# Altium integrated library TI_Logic_Little_Logic.IntLib: 1164 symbols (part 3 of 35)
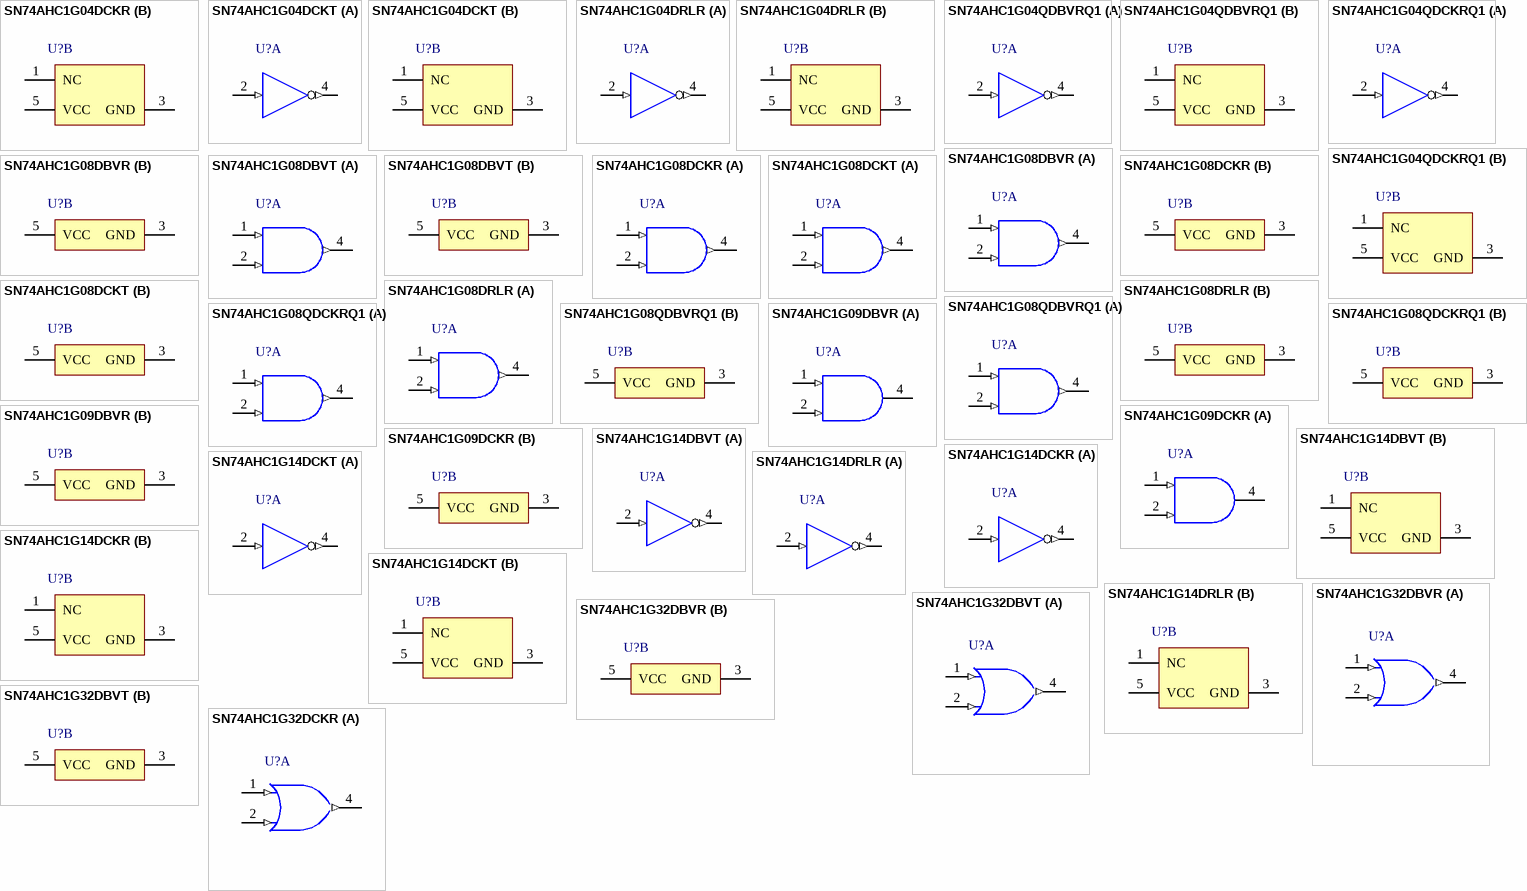
[diagram p62: symbols SN74AHC1G04DCKR to SN74AHC1G32DCKR]

## SN74AHC1G04QDCKRQ1
designator U?
Automotive Catalog Single Inverter Gate, DCK0005A, LARGE T&R; Generic Part Number: SN74AHC1G04-Q1; Manufacturer: Texas Instruments; PartNumber: SN74AHC1G04QDCKRQ1; VCC(Min)(V): 2; VCC(Max)(V): 5.5; Output Type: CMOS; ICC @ Nom Voltage(Max)(mA): 0.01; Bits(#): 1; F @ Nom Voltage(Max)(Mhz): 75; Technology Family: AHC; Voltage(Nom)(V): 3.3,5; Schmitt Trigger: No; Output Drive (IOL/IOH)(Max)(mA): 50/-50; tpd @ Nom Voltage(Max)(ns): 10.6,7.5; Logic: Inverting; Sub-Family: Inverting Buffer/Driver; DatasheetVersion: SCLS540A; PackageReference: DCK0005A; Supplier 1: Mouser; Supplier Part Number 1: 595-SN74AHC1G04QDCQ1; Supplier 2: Digi-Key; Supplier Part Number 2: 296-17248-2-ND; Supplier 3: Digi-Key; Supplier Part Number 3: 296-17248-1-ND; Supplier 4: Digi-Key; Supplier Part Number 4: 296-17248-6-ND; Input Type: CMOS; Operating Temperature Range(C): -40 to 125; Rating: Automotive; 3-State Output: No; ComponentLink1Description: Manufacturer URL; ComponentLink1URL: http://www.ti.com/; ComponentLink2Description: Datasheet; ComponentLink2URL: http://www.ti.com/lit/ds/symlink/sn74ahc1g04-q1.pdf
footprint DCK0005A_N (SOT23, 5-Leads, Body 2.15x1.4mm, Pitch 0.65mm, IPC Medium Density)
footprint DCK0005A_M (SOT23, 5-Leads, Body 2.15x1.4mm, Pitch 0.65mm, IPC Low Density)
footprint DCK0005A_L (SOT23, 5-Leads, Body 2.15x1.4mm, Pitch 0.65mm, IPC High Density)
part A pins: 2 A (in) "Input A", 4 Y (out) "Output Y"
part B pins: 1 NC "Ground", 3 GND (power) "Ground Pin", 5 VCC (power) "Power Pin"

## SN74AHC1G08DBVR
designator U?
Single 2-Input Positive-AND Gate, DBV0005A, LARGE T&R; Generic Part Number: SN74AHC1G08; Manufacturer: Texas Instruments; PartNumber: SN74AHC1G08DBVR; VCC(Min)(V): 2; VCC(Max)(V): 5.5; Output Type: CMOS; ICC @ Nom Voltage(Max)(mA): 0.01; Bits(#): 1; F @ Nom Voltage(Max)(Mhz): 75; Rating: Catalog; Technology Family: AHC; Voltage(Nom)(V): 3.3,5; Schmitt Trigger: No; Output Drive (IOL/IOH)(Max)(mA): 50/-50; tpd @ Nom Voltage(Max)(ns): 12.3,7.9; Logic: True; Gate Type: AND; DatasheetVersion: SCLS314N; PackageReference: DBV0005A; Supplier 1: Mouser; Supplier Part Number 1: 595-SN74AHC1G08DBVR; Supplier 2: Digi-Key; Supplier Part Number 2: 296-1091-2-ND; Supplier 3: Digi-Key; Supplier Part Number 3: 296-1091-1-ND; Supplier 4: Digi-Key; Supplier Part Number 4: 296-1091-6-ND; Input Type: CMOS; Operating Temperature Range(C): -55 to 125; Sub-Family: AND Gate; 3-State Output: No; ComponentLink1Description: Manufacturer URL; ComponentLink1URL: http://www.ti.com/; ComponentLink2Description: Datasheet; ComponentLink2URL: http://www.ti.com/lit/ds/symlink/sn74ahc1g08.pdf
footprint DBV0005A_N (SOT23, 5-Leads, Body 3.05x1.75mm, Pitch 0.95mm, IPC Medium Density)
footprint DBV0005A_M (SOT23, 5-Leads, Body 3.05x1.75mm, Pitch 0.95mm, IPC Low Density)
footprint DBV0005A_L (SOT23, 5-Leads, Body 3.05x1.75mm, Pitch 0.95mm, IPC High Density)
part A pins: 1 A (in) "Input A", 2 B (in) "Input B", 4 Y (out) "Output Y"
part B pins: 3 GND (power) "Ground Pin", 5 VCC (power) "Power Pin"

## SN74AHC1G08DBVT
designator U?
Single 2-Input Positive-AND Gate, DBV0005A, SMALL T&R; Generic Part Number: SN74AHC1G08; Manufacturer: Texas Instruments; PartNumber: SN74AHC1G08DBVT; VCC(Min)(V): 2; VCC(Max)(V): 5.5; Output Type: CMOS; ICC @ Nom Voltage(Max)(mA): 0.01; Bits(#): 1; F @ Nom Voltage(Max)(Mhz): 75; Rating: Catalog; Technology Family: AHC; Voltage(Nom)(V): 3.3,5; Schmitt Trigger: No; Output Drive (IOL/IOH)(Max)(mA): 50/-50; tpd @ Nom Voltage(Max)(ns): 12.3,7.9; Logic: True; Gate Type: AND; DatasheetVersion: SCLS314N; PackageReference: DBV0005A; Supplier 1: Mouser; Supplier Part Number 1: 595-SN74AHC1G08DBVT; Supplier 2: Digi-Key; Supplier Part Number 2: 296-26398-2-ND; Supplier 3: Digi-Key; Supplier Part Number 3: 296-26398-1-ND; Supplier 4: Digi-Key; Supplier Part Number 4: 296-26398-6-ND; Input Type: CMOS; Operating Temperature Range(C): -55 to 125; Sub-Family: AND Gate; 3-State Output: No; ComponentLink1Description: Manufacturer URL; ComponentLink1URL: http://www.ti.com/; ComponentLink2Description: Datasheet; ComponentLink2URL: http://www.ti.com/lit/ds/symlink/sn74ahc1g08.pdf
footprint DBV0005A_N (SOT23, 5-Leads, Body 3.05x1.75mm, Pitch 0.95mm, IPC Medium Density)
footprint DBV0005A_M (SOT23, 5-Leads, Body 3.05x1.75mm, Pitch 0.95mm, IPC Low Density)
footprint DBV0005A_L (SOT23, 5-Leads, Body 3.05x1.75mm, Pitch 0.95mm, IPC High Density)
part A pins: 1 A (in) "Input A", 2 B (in) "Input B", 4 Y (out) "Output Y"
part B pins: 3 GND (power) "Ground Pin", 5 VCC (power) "Power Pin"

## SN74AHC1G08DCKR
designator U?
Single 2-Input Positive-AND Gate, DCK0005A, LARGE T&R; Generic Part Number: SN74AHC1G08; Manufacturer: Texas Instruments; PartNumber: SN74AHC1G08DCKR; VCC(Min)(V): 2; VCC(Max)(V): 5.5; Output Type: CMOS; ICC @ Nom Voltage(Max)(mA): 0.01; Bits(#): 1; F @ Nom Voltage(Max)(Mhz): 75; Rating: Catalog; Technology Family: AHC; Voltage(Nom)(V): 3.3,5; Schmitt Trigger: No; Output Drive (IOL/IOH)(Max)(mA): 50/-50; tpd @ Nom Voltage(Max)(ns): 12.3,7.9; Logic: True; Gate Type: AND; DatasheetVersion: SCLS314N; PackageReference: DCK0005A; Supplier 1: Mouser; Supplier Part Number 1: 595-SN74AHC1G08DCKR; Supplier 2: Digi-Key; Supplier Part Number 2: 296-8743-2-ND; Supplier 3: Digi-Key; Supplier Part Number 3: 296-8743-1-ND; Supplier 4: Digi-Key; Supplier Part Number 4: 296-8743-6-ND; Input Type: CMOS; Operating Temperature Range(C): -55 to 125; Sub-Family: AND Gate; 3-State Output: No; ComponentLink1Description: Manufacturer URL; ComponentLink1URL: http://www.ti.com/; ComponentLink2Description: Datasheet; ComponentLink2URL: http://www.ti.com/lit/ds/symlink/sn74ahc1g08.pdf
footprint DCK0005A_N (SOT23, 5-Leads, Body 2.15x1.4mm, Pitch 0.65mm, IPC Medium Density)
footprint DCK0005A_M (SOT23, 5-Leads, Body 2.15x1.4mm, Pitch 0.65mm, IPC Low Density)
footprint DCK0005A_L (SOT23, 5-Leads, Body 2.15x1.4mm, Pitch 0.65mm, IPC High Density)
part A pins: 1 A (in) "Input A", 2 B (in) "Input B", 4 Y (out) "Output Y"
part B pins: 3 GND (power) "Ground Pin", 5 VCC (power) "Power Pin"

## SN74AHC1G08DCKT
designator U?
Single 2-Input Positive-AND Gate, DCK0005A, SMALL T&R; Generic Part Number: SN74AHC1G08; Manufacturer: Texas Instruments; PartNumber: SN74AHC1G08DCKT; VCC(Min)(V): 2; VCC(Max)(V): 5.5; Output Type: CMOS; ICC @ Nom Voltage(Max)(mA): 0.01; Bits(#): 1; F @ Nom Voltage(Max)(Mhz): 75; Rating: Catalog; Technology Family: AHC; Voltage(Nom)(V): 3.3,5; Schmitt Trigger: No; Output Drive (IOL/IOH)(Max)(mA): 50/-50; tpd @ Nom Voltage(Max)(ns): 12.3,7.9; Logic: True; Gate Type: AND; DatasheetVersion: SCLS314N; PackageReference: DCK0005A; Supplier 1: Mouser; Supplier Part Number 1: 595-SN74AHC1G08DCKT; Supplier 2: Digi-Key; Supplier Part Number 2: 296-26399-2-ND; Supplier 3: Digi-Key; Supplier Part Number 3: 296-26399-1-ND; Supplier 4: Digi-Key; Supplier Part Number 4: 296-26399-6-ND; Input Type: CMOS; Operating Temperature Range(C): -55 to 125; Sub-Family: AND Gate; 3-State Output: No; ComponentLink1Description: Manufacturer URL; ComponentLink1URL: http://www.ti.com/; ComponentLink2Description: Datasheet; ComponentLink2URL: http://www.ti.com/lit/ds/symlink/sn74ahc1g08.pdf
footprint DCK0005A_N (SOT23, 5-Leads, Body 2.15x1.4mm, Pitch 0.65mm, IPC Medium Density)
footprint DCK0005A_M (SOT23, 5-Leads, Body 2.15x1.4mm, Pitch 0.65mm, IPC Low Density)
footprint DCK0005A_L (SOT23, 5-Leads, Body 2.15x1.4mm, Pitch 0.65mm, IPC High Density)
part A pins: 1 A (in) "Input A", 2 B (in) "Input B", 4 Y (out) "Output Y"
part B pins: 3 GND (power) "Ground Pin", 5 VCC (power) "Power Pin"

## SN74AHC1G08DRLR
designator U?
Single 2-Input Positive-AND Gate, DRL0005A, LARGE T&R; Generic Part Number: SN74AHC1G08; Manufacturer: Texas Instruments; PartNumber: SN74AHC1G08DRLR; VCC(Min)(V): 2; VCC(Max)(V): 5.5; Output Type: CMOS; ICC @ Nom Voltage(Max)(mA): 0.01; Bits(#): 1; F @ Nom Voltage(Max)(Mhz): 75; Rating: Catalog; Technology Family: AHC; Voltage(Nom)(V): 3.3,5; Schmitt Trigger: No; Output Drive (IOL/IOH)(Max)(mA): 50/-50; tpd @ Nom Voltage(Max)(ns): 12.3,7.9; Logic: True; Gate Type: AND; DatasheetVersion: SCLS314N; PackageReference: DRL0005A; Supplier 1: Mouser; Supplier Part Number 1: 595-SN74AHC1G08DRLR; Supplier 2: Digi-Key; Supplier Part Number 2: 296-19376-2-ND; Supplier 3: Digi-Key; Supplier Part Number 3: 296-19376-1-ND; Supplier 4: Digi-Key; Supplier Part Number 4: 296-19376-6-ND; Input Type: CMOS; Operating Temperature Range(C): -55 to 125; Sub-Family: AND Gate; 3-State Output: No; ComponentLink1Description: Manufacturer URL; ComponentLink1URL: http://www.ti.com/; ComponentLink2Description: Datasheet; ComponentLink2URL: http://www.ti.com/lit/ds/symlink/sn74ahc1g08.pdf
footprint DRL0005A_N (SOT23, 5-Leads, Body 1.7x1.3mm, Pitch 0.5mm, IPC Medium Density)
footprint DRL0005A_M (SOT23, 5-Leads, Body 1.7x1.3mm, Pitch 0.5mm, IPC Low Density)
footprint DRL0005A_L (SOT23, 5-Leads, Body 1.7x1.3mm, Pitch 0.5mm, IPC High Density)
part A pins: 1 A (in) "Input A", 2 B (in) "Input B", 4 Y (out) "Output Y"
part B pins: 3 GND (power) "Ground Pin", 5 VCC (power) "Power Pin"

## SN74AHC1G08QDBVRQ1
designator U?
Automotive Catalog Single 2-Input Positive-AND Gate, DBV0005A, LARGE T&R; Generic Part Number: SN74AHC1G08-Q1; Manufacturer: Texas Instruments; PartNumber: SN74AHC1G08QDBVRQ1; VCC(Min)(V): 2; VCC(Max)(V): 5.5; Output Type: CMOS; ICC @ Nom Voltage(Max)(mA): 0.01; Bits(#): 1; F @ Nom Voltage(Max)(Mhz): 75; Technology Family: AHC; Voltage(Nom)(V): 3.3,5; Schmitt Trigger: No; Output Drive (IOL/IOH)(Max)(mA): 50/-50; tpd @ Nom Voltage(Max)(ns): 12.3,7.9; Logic: True; Gate Type: AND; DatasheetVersion: SCLS592C; PackageReference: DBV0005A; Supplier 1: Mouser; Supplier Part Number 1: 595-AHC1G08QDBVRQ1; Supplier 2: Digi-Key; Supplier Part Number 2: 296-23875-2-ND; Supplier 3: Digi-Key; Supplier Part Number 3: 296-23875-1-ND; Supplier 4: Digi-Key; Supplier Part Number 4: 296-23875-6-ND; Input Type: CMOS; Operating Temperature Range(C): -40 to 125; Rating: Automotive; Sub-Family: AND Gate; 3-State Output: No; ComponentLink1Description: Manufacturer URL; ComponentLink1URL: http://www.ti.com/; ComponentLink2Description: Datasheet; ComponentLink2URL: http://www.ti.com/lit/ds/symlink/sn74ahc1g08-q1.pdf
footprint DBV0005A_N (SOT23, 5-Leads, Body 3.05x1.75mm, Pitch 0.95mm, IPC Medium Density)
footprint DBV0005A_M (SOT23, 5-Leads, Body 3.05x1.75mm, Pitch 0.95mm, IPC Low Density)
footprint DBV0005A_L (SOT23, 5-Leads, Body 3.05x1.75mm, Pitch 0.95mm, IPC High Density)
part A pins: 1 A (in) "Input A", 2 B (in) "Input B", 4 Y (out) "Output Y"
part B pins: 3 GND (power) "Ground Pin", 5 VCC (power) "Power Pin"

## SN74AHC1G08QDCKRQ1
designator U?
Automotive Catalog Single 2-Input Positive-AND Gate, DCK0005A, LARGE T&R; Generic Part Number: SN74AHC1G08-Q1; Manufacturer: Texas Instruments; PartNumber: SN74AHC1G08QDCKRQ1; VCC(Min)(V): 2; VCC(Max)(V): 5.5; Output Type: CMOS; ICC @ Nom Voltage(Max)(mA): 0.01; Bits(#): 1; F @ Nom Voltage(Max)(Mhz): 75; Technology Family: AHC; Voltage(Nom)(V): 3.3,5; Schmitt Trigger: No; Output Drive (IOL/IOH)(Max)(mA): 50/-50; tpd @ Nom Voltage(Max)(ns): 12.3,7.9; Logic: True; Gate Type: AND; DatasheetVersion: SCLS592C; PackageReference: DCK0005A; Supplier 1: Mouser; Supplier Part Number 1: 595-SN74AHC1G08QDCQ1; Supplier 2: Digi-Key; Supplier Part Number 2: 296-32228-2-ND; Supplier 3: Digi-Key; Supplier Part Number 3: 296-32228-1-ND; Supplier 4: Digi-Key; Supplier Part Number 4: 296-32228-6-ND; Input Type: CMOS; Operating Temperature Range(C): -40 to 125; Rating: Automotive; Sub-Family: AND Gate; 3-State Output: No; ComponentLink1Description: Manufacturer URL; ComponentLink1URL: http://www.ti.com/; ComponentLink2Description: Datasheet; ComponentLink2URL: http://www.ti.com/lit/ds/symlink/sn74ahc1g08-q1.pdf
footprint DCK0005A_N (SOT23, 5-Leads, Body 2.15x1.4mm, Pitch 0.65mm, IPC Medium Density)
footprint DCK0005A_M (SOT23, 5-Leads, Body 2.15x1.4mm, Pitch 0.65mm, IPC Low Density)
footprint DCK0005A_L (SOT23, 5-Leads, Body 2.15x1.4mm, Pitch 0.65mm, IPC High Density)
part A pins: 1 A (in) "Input A", 2 B (in) "Input B", 4 Y (out) "Output Y"
part B pins: 3 GND (power) "Ground Pin", 5 VCC (power) "Power Pin"

## SN74AHC1G09DBVR
designator U?
Single 2-Input Positive–AND Gate with Open Drain Output, DBV0005A, LARGE T&R; Generic Part Number: SN74AHC1G09; Manufacturer: Texas Instruments; PartNumber: SN74AHC1G09DBVR; VCC(Min)(V): 2; VCC(Max)(V): 5.5; Output Type: CMOS; ICC @ Nom Voltage(Max)(mA): 0.01; Bits(#): 1; F @ Nom Voltage(Max)(Mhz): 75; Rating: Catalog; Technology Family: AHC; Voltage(Nom)(V): 3.3,5; Schmitt Trigger: No; Output Drive (IOL/IOH)(Max)(mA): 50/-50; tpd @ Nom Voltage(Max)(ns): 11,7.5; Logic: True; Gate Type: AND; DatasheetVersion: SCLS724B; PackageReference: DBV0005A; Supplier 1: Mouser; Supplier Part Number 1: 595-SN74AHC1G09DBVR; Supplier 2: Digi-Key; Supplier Part Number 2: 296-29202-2-ND; Supplier 3: Digi-Key; Supplier Part Number 3: 296-29202-1-ND; Supplier 4: Digi-Key; Supplier Part Number 4: 296-29202-6-ND; Input Type: CMOS; Operating Temperature Range(C): -40 to 85; Sub-Family: AND Gate; 3-State Output: No; ComponentLink1Description: Manufacturer URL; ComponentLink1URL: http://www.ti.com/; ComponentLink2Description: Datasheet; ComponentLink2URL: http://www.ti.com/lit/ds/symlink/sn74ahc1g09.pdf
footprint DBV0005A_N (SOT23, 5-Leads, Body 3.05x1.75mm, Pitch 0.95mm, IPC Medium Density)
footprint DBV0005A_M (SOT23, 5-Leads, Body 3.05x1.75mm, Pitch 0.95mm, IPC Low Density)
footprint DBV0005A_L (SOT23, 5-Leads, Body 3.05x1.75mm, Pitch 0.95mm, IPC High Density)
part A pins: 1 A (in), 2 B (in), 4 Y (hiz)
part B pins: 3 GND (power), 5 VCC (power)

## SN74AHC1G09DCKR
designator U?
Single 2-Input Positive–AND Gate with Open Drain Output, DCK0005A, LARGE T&R; Generic Part Number: SN74AHC1G09; Manufacturer: Texas Instruments; PartNumber: SN74AHC1G09DCKR; VCC(Min)(V): 2; VCC(Max)(V): 5.5; Output Type: CMOS; ICC @ Nom Voltage(Max)(mA): 0.01; Bits(#): 1; F @ Nom Voltage(Max)(Mhz): 75; Rating: Catalog; Technology Family: AHC; Voltage(Nom)(V): 3.3,5; Schmitt Trigger: No; Output Drive (IOL/IOH)(Max)(mA): 50/-50; tpd @ Nom Voltage(Max)(ns): 11,7.5; Logic: True; Gate Type: AND; DatasheetVersion: SCLS724B; PackageReference: DCK0005A; Supplier 1: Mouser; Supplier Part Number 1: 595-SN74AHC1G09DCKR; Supplier 2: Digi-Key; Supplier Part Number 2: 296-29203-2-ND; Supplier 3: Digi-Key; Supplier Part Number 3: 296-29203-1-ND; Supplier 4: Digi-Key; Supplier Part Number 4: 296-29203-6-ND; Input Type: CMOS; Operating Temperature Range(C): -40 to 85; Sub-Family: AND Gate; 3-State Output: No; ComponentLink1Description: Manufacturer URL; ComponentLink1URL: http://www.ti.com/; ComponentLink2Description: Datasheet; ComponentLink2URL: http://www.ti.com/lit/ds/symlink/sn74ahc1g09.pdf
footprint DCK0005A_N (SOT23, 5-Leads, Body 2.15x1.4mm, Pitch 0.65mm, IPC Medium Density)
footprint DCK0005A_M (SOT23, 5-Leads, Body 2.15x1.4mm, Pitch 0.65mm, IPC Low Density)
footprint DCK0005A_L (SOT23, 5-Leads, Body 2.15x1.4mm, Pitch 0.65mm, IPC High Density)
part A pins: 1 A (in), 2 B (in), 4 Y (hiz)
part B pins: 3 GND (power), 5 VCC (power)

## SN74AHC1G14DBVT
designator U?
Single Schmitt-Trigger Inverter Gate, DBV0005A, SMALL T&R; Generic Part Number: SN74AHC1G14; Manufacturer: Texas Instruments; PartNumber: SN74AHC1G14DBVT; VCC(Min)(V): 2; VCC(Max)(V): 5.5; Output Type: CMOS; ICC @ Nom Voltage(Max)(mA): 0.01; Bits(#): 1; F @ Nom Voltage(Max)(Mhz): 75; Rating: Catalog; Technology Family: AHC; Voltage(Nom)(V): 3.3,5; Schmitt Trigger: Yes; Output Drive (IOL/IOH)(Max)(mA): 50/-50; tpd @ Nom Voltage(Max)(ns): 16.3,10.6; Logic: Inverting; Sub-Family: Inverting Buffer/Driver; 3-State Output: No; DatasheetVersion: SCLS321P; PackageReference: DBV0005A; Supplier 1: Mouser; Supplier Part Number 1: 595-SN74AHC1G14DBVT; Supplier 2: Digi-Key; Supplier Part Number 2: 296-26401-2-ND; Supplier 3: Digi-Key; Supplier Part Number 3: 296-26401-1-ND; Supplier 4: Digi-Key; Supplier Part Number 4: 296-26401-6-ND; Input Type: CMOS; Operating Temperature Range(C): -40 to 125; ComponentLink1Description: Manufacturer URL; ComponentLink1URL: http://www.ti.com/; ComponentLink2Description: Datasheet; ComponentLink2URL: http://www.ti.com/lit/ds/symlink/sn74ahc1g14.pdf
footprint DBV0005A_N (SOT23, 5-Leads, Body 3.05x1.75mm, Pitch 0.95mm, IPC Medium Density)
footprint DBV0005A_M (SOT23, 5-Leads, Body 3.05x1.75mm, Pitch 0.95mm, IPC Low Density)
footprint DBV0005A_L (SOT23, 5-Leads, Body 3.05x1.75mm, Pitch 0.95mm, IPC High Density)
part A pins: 2 A (in) "Input A", 4 Y (out) "Output Y"
part B pins: 1 NC "Ground", 3 GND (power) "Ground Pin", 5 VCC (power) "Power Pin"

## SN74AHC1G14DCKR
designator U?
Single Schmitt-Trigger Inverter Gate, DCK0005A, LARGE T&R; Generic Part Number: SN74AHC1G14; Manufacturer: Texas Instruments; PartNumber: SN74AHC1G14DCKR; VCC(Min)(V): 2; VCC(Max)(V): 5.5; Output Type: CMOS; ICC @ Nom Voltage(Max)(mA): 0.01; Bits(#): 1; F @ Nom Voltage(Max)(Mhz): 75; Rating: Catalog; Technology Family: AHC; Voltage(Nom)(V): 3.3,5; Schmitt Trigger: Yes; Output Drive (IOL/IOH)(Max)(mA): 50/-50; tpd @ Nom Voltage(Max)(ns): 16.3,10.6; Logic: Inverting; Sub-Family: Inverting Buffer/Driver; 3-State Output: No; DatasheetVersion: SCLS321P; PackageReference: DCK0005A; Supplier 1: Mouser; Supplier Part Number 1: 595-SN74AHC1G14DCKR; Supplier 2: Digi-Key; Supplier Part Number 2: 296-8748-2-ND; Supplier 3: Digi-Key; Supplier Part Number 3: 296-8748-1-ND; Supplier 4: Digi-Key; Supplier Part Number 4: 296-8748-6-ND; Input Type: CMOS; Operating Temperature Range(C): -40 to 125; ComponentLink1Description: Manufacturer URL; ComponentLink1URL: http://www.ti.com/; ComponentLink2Description: Datasheet; ComponentLink2URL: http://www.ti.com/lit/ds/symlink/sn74ahc1g14.pdf
footprint DCK0005A_N (SOT23, 5-Leads, Body 2.15x1.4mm, Pitch 0.65mm, IPC Medium Density)
footprint DCK0005A_M (SOT23, 5-Leads, Body 2.15x1.4mm, Pitch 0.65mm, IPC Low Density)
footprint DCK0005A_L (SOT23, 5-Leads, Body 2.15x1.4mm, Pitch 0.65mm, IPC High Density)
part A pins: 2 A (in) "Input A", 4 Y (out) "Output Y"
part B pins: 1 NC "Ground", 3 GND (power) "Ground Pin", 5 VCC (power) "Power Pin"

## SN74AHC1G14DCKT
designator U?
Single Schmitt-Trigger Inverter Gate, DCK0005A, SMALL T&R; Generic Part Number: SN74AHC1G14; Manufacturer: Texas Instruments; PartNumber: SN74AHC1G14DCKT; VCC(Min)(V): 2; VCC(Max)(V): 5.5; Output Type: CMOS; ICC @ Nom Voltage(Max)(mA): 0.01; Bits(#): 1; F @ Nom Voltage(Max)(Mhz): 75; Rating: Catalog; Technology Family: AHC; Voltage(Nom)(V): 3.3,5; Schmitt Trigger: Yes; Output Drive (IOL/IOH)(Max)(mA): 50/-50; tpd @ Nom Voltage(Max)(ns): 16.3,10.6; Logic: Inverting; Sub-Family: Inverting Buffer/Driver; 3-State Output: No; DatasheetVersion: SCLS321P; PackageReference: DCK0005A; Supplier 1: Mouser; Supplier Part Number 1: 595-SN74AHC1G14DCKT; Supplier 2: Digi-Key; Supplier Part Number 2: 296-32231-2-ND; Supplier 3: Digi-Key; Supplier Part Number 3: 296-32231-1-ND; Supplier 4: Digi-Key; Supplier Part Number 4: 296-32231-6-ND; Input Type: CMOS; Operating Temperature Range(C): -40 to 125; ComponentLink1Description: Manufacturer URL; ComponentLink1URL: http://www.ti.com/; ComponentLink2Description: Datasheet; ComponentLink2URL: http://www.ti.com/lit/ds/symlink/sn74ahc1g14.pdf
footprint DCK0005A_N (SOT23, 5-Leads, Body 2.15x1.4mm, Pitch 0.65mm, IPC Medium Density)
footprint DCK0005A_M (SOT23, 5-Leads, Body 2.15x1.4mm, Pitch 0.65mm, IPC Low Density)
footprint DCK0005A_L (SOT23, 5-Leads, Body 2.15x1.4mm, Pitch 0.65mm, IPC High Density)
part A pins: 2 A (in) "Input A", 4 Y (out) "Output Y"
part B pins: 1 NC "Ground", 3 GND (power) "Ground Pin", 5 VCC (power) "Power Pin"

## SN74AHC1G14DRLR
designator U?
Single Schmitt-Trigger Inverter Gate, DRL0005A, LARGE T&R; Generic Part Number: SN74AHC1G14; Manufacturer: Texas Instruments; PartNumber: SN74AHC1G14DRLR; VCC(Min)(V): 2; VCC(Max)(V): 5.5; Output Type: CMOS; ICC @ Nom Voltage(Max)(mA): 0.01; Bits(#): 1; F @ Nom Voltage(Max)(Mhz): 75; Rating: Catalog; Technology Family: AHC; Voltage(Nom)(V): 3.3,5; Schmitt Trigger: Yes; Output Drive (IOL/IOH)(Max)(mA): 50/-50; tpd @ Nom Voltage(Max)(ns): 16.3,10.6; Logic: Inverting; Sub-Family: Inverting Buffer/Driver; 3-State Output: No; DatasheetVersion: SCLS321P; PackageReference: DRL0005A; Supplier 1: Mouser; Supplier Part Number 1: 595-SN74AHC1G14DRLR; Supplier 2: Digi-Key; Supplier Part Number 2: 296-23232-2-ND; Supplier 3: Digi-Key; Supplier Part Number 3: 296-23232-1-ND; Supplier 4: Digi-Key; Supplier Part Number 4: 296-23232-6-ND; Input Type: CMOS; Operating Temperature Range(C): -40 to 125; ComponentLink1Description: Manufacturer URL; ComponentLink1URL: http://www.ti.com/; ComponentLink2Description: Datasheet; ComponentLink2URL: http://www.ti.com/lit/ds/symlink/sn74ahc1g14.pdf
footprint DRL0005A_N (SOT23, 5-Leads, Body 1.7x1.3mm, Pitch 0.5mm, IPC Medium Density)
footprint DRL0005A_M (SOT23, 5-Leads, Body 1.7x1.3mm, Pitch 0.5mm, IPC Low Density)
footprint DRL0005A_L (SOT23, 5-Leads, Body 1.7x1.3mm, Pitch 0.5mm, IPC High Density)
part A pins: 2 A (in) "Input A", 4 Y (out) "Output Y"
part B pins: 1 NC "Ground", 3 GND (power) "Ground Pin", 5 VCC (power) "Power Pin"

## SN74AHC1G32DBVR
designator U?
Single 2-Input Positive-OR Gate, DBV0005A, LARGE T&R; Generic Part Number: SN74AHC1G32; Manufacturer: Texas Instruments; PartNumber: SN74AHC1G32DBVR; VCC(Min)(V): 2; VCC(Max)(V): 5.5; Output Type: CMOS; ICC @ Nom Voltage(Max)(mA): 0.01; Bits(#): 1; F @ Nom Voltage(Max)(Mhz): 75; Rating: Catalog; Technology Family: AHC; Voltage(Nom)(V): 3.3,5; Schmitt Trigger: No; Output Drive (IOL/IOH)(Max)(mA): 50/-50; tpd @ Nom Voltage(Max)(ns): 13,8.5; Logic: True; Gate Type: OR; Sub-Family: OR Gate; DatasheetVersion: SCLS317O; PackageReference: DBV0005A; Supplier 1: Mouser; Supplier Part Number 1: 595-SN74AHC1G32DBVR; Supplier 2: Digi-Key; Supplier Part Number 2: 296-1093-2-ND; Supplier 3: Digi-Key; Supplier Part Number 3: 296-1093-1-ND; Supplier 4: Digi-Key; Supplier Part Number 4: 296-1093-6-ND; Input Type: CMOS; Operating Temperature Range(C): -40 to 125; 3-State Output: No; ComponentLink1Description: Manufacturer URL; ComponentLink1URL: http://www.ti.com/; ComponentLink2Description: Datasheet; ComponentLink2URL: http://www.ti.com/lit/ds/symlink/sn74ahc1g32.pdf
footprint DBV0005A_N (SOT23, 5-Leads, Body 3.05x1.75mm, Pitch 0.95mm, IPC Medium Density)
footprint DBV0005A_M (SOT23, 5-Leads, Body 3.05x1.75mm, Pitch 0.95mm, IPC Low Density)
footprint DBV0005A_L (SOT23, 5-Leads, Body 3.05x1.75mm, Pitch 0.95mm, IPC High Density)
part A pins: 1 A (in) "Input A", 2 B (in) "Input B", 4 Y (out) "Output Y"
part B pins: 3 GND (power) "Ground Pin", 5 VCC (power) "Power Pin"

## SN74AHC1G32DBVT
designator U?
Single 2-Input Positive-OR Gate, DBV0005A, SMALL T&R; Generic Part Number: SN74AHC1G32; Manufacturer: Texas Instruments; PartNumber: SN74AHC1G32DBVT; VCC(Min)(V): 2; VCC(Max)(V): 5.5; Output Type: CMOS; ICC @ Nom Voltage(Max)(mA): 0.01; Bits(#): 1; F @ Nom Voltage(Max)(Mhz): 75; Rating: Catalog; Technology Family: AHC; Voltage(Nom)(V): 3.3,5; Schmitt Trigger: No; Output Drive (IOL/IOH)(Max)(mA): 50/-50; tpd @ Nom Voltage(Max)(ns): 13,8.5; Logic: True; Gate Type: OR; Sub-Family: OR Gate; DatasheetVersion: SCLS317O; PackageReference: DBV0005A; Supplier 1: Mouser; Supplier Part Number 1: 595-SN74AHC1G32DBVT; Supplier 2: Digi-Key; Supplier Part Number 2: 296-32232-2-ND; Supplier 3: Digi-Key; Supplier Part Number 3: 296-32232-1-ND; Supplier 4: Digi-Key; Supplier Part Number 4: 296-32232-6-ND; Input Type: CMOS; Operating Temperature Range(C): -40 to 125; 3-State Output: No; ComponentLink1Description: Manufacturer URL; ComponentLink1URL: http://www.ti.com/; ComponentLink2Description: Datasheet; ComponentLink2URL: http://www.ti.com/lit/ds/symlink/sn74ahc1g32.pdf
footprint DBV0005A_N (SOT23, 5-Leads, Body 3.05x1.75mm, Pitch 0.95mm, IPC Medium Density)
footprint DBV0005A_M (SOT23, 5-Leads, Body 3.05x1.75mm, Pitch 0.95mm, IPC Low Density)
footprint DBV0005A_L (SOT23, 5-Leads, Body 3.05x1.75mm, Pitch 0.95mm, IPC High Density)
part A pins: 1 A (in) "Input A", 2 B (in) "Input B", 4 Y (out) "Output Y"
part B pins: 3 GND (power) "Ground Pin", 5 VCC (power) "Power Pin"

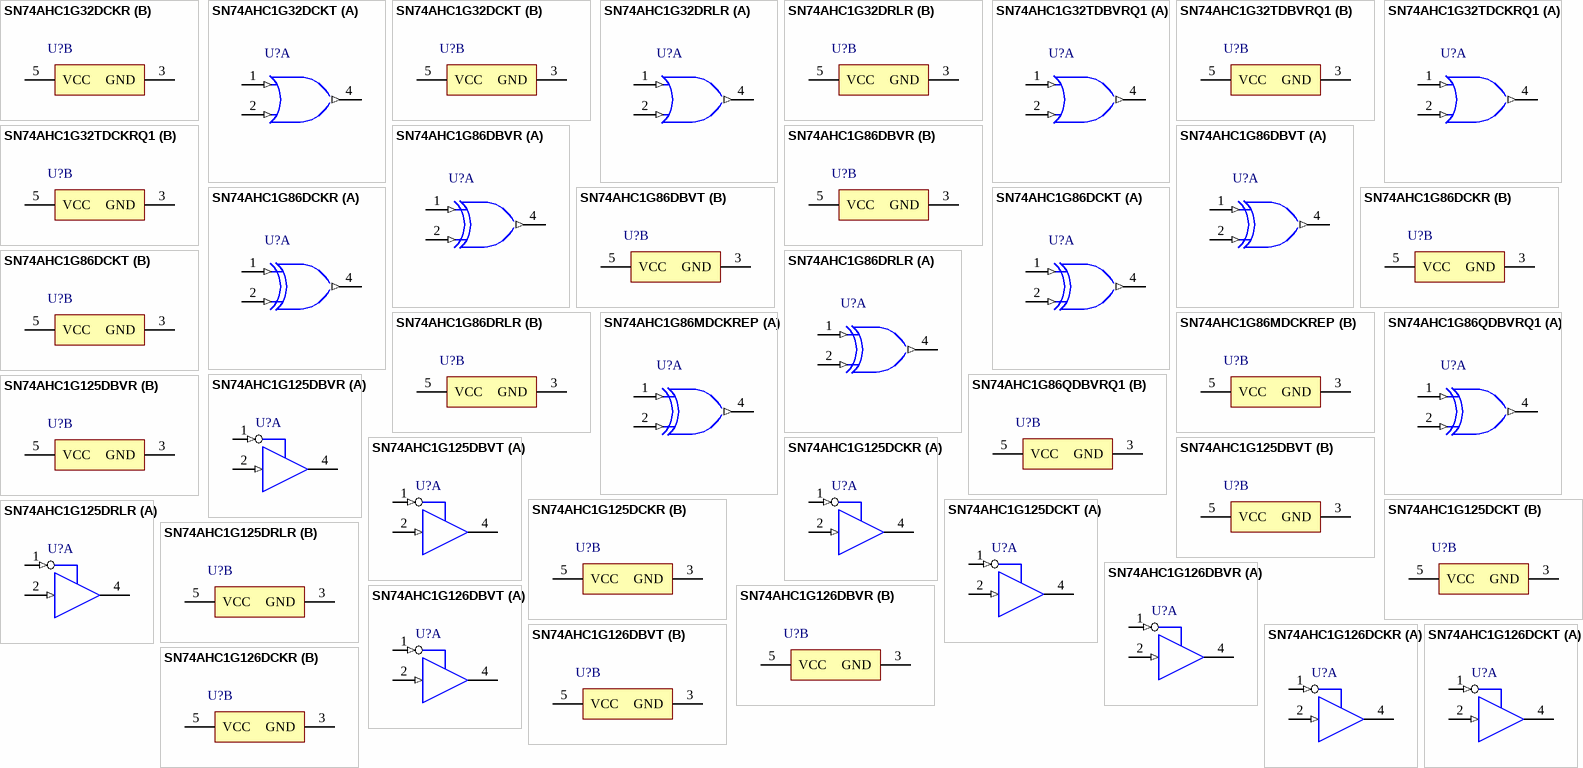
[diagram p4: symbols SN74AHC1G32DCKR to SN74AHC1G126DCKT]

## SN74AHC1G32DCKR
designator U?
Single 2-Input Positive-OR Gate, DCK0005A, LARGE T&R; Generic Part Number: SN74AHC1G32; Manufacturer: Texas Instruments; PartNumber: SN74AHC1G32DCKR; VCC(Min)(V): 2; VCC(Max)(V): 5.5; Output Type: CMOS; ICC @ Nom Voltage(Max)(mA): 0.01; Bits(#): 1; F @ Nom Voltage(Max)(Mhz): 75; Rating: Catalog; Technology Family: AHC; Voltage(Nom)(V): 3.3,5; Schmitt Trigger: No; Output Drive (IOL/IOH)(Max)(mA): 50/-50; tpd @ Nom Voltage(Max)(ns): 13,8.5; Logic: True; Gate Type: OR; Sub-Family: OR Gate; DatasheetVersion: SCLS317O; PackageReference: DCK0005A; Supplier 1: Mouser; Supplier Part Number 1: 595-SN74AHC1G32DCKR; Supplier 2: Digi-Key; Supplier Part Number 2: 296-8749-2-ND; Supplier 3: Digi-Key; Supplier Part Number 3: 296-8749-1-ND; Supplier 4: Digi-Key; Supplier Part Number 4: 296-8749-6-ND; Input Type: CMOS; Operating Temperature Range(C): -40 to 125; 3-State Output: No; ComponentLink1Description: Manufacturer URL; ComponentLink1URL: http://www.ti.com/; ComponentLink2Description: Datasheet; ComponentLink2URL: http://www.ti.com/lit/ds/symlink/sn74ahc1g32.pdf
footprint DCK0005A_N (SOT23, 5-Leads, Body 2.15x1.4mm, Pitch 0.65mm, IPC Medium Density)
footprint DCK0005A_M (SOT23, 5-Leads, Body 2.15x1.4mm, Pitch 0.65mm, IPC Low Density)
footprint DCK0005A_L (SOT23, 5-Leads, Body 2.15x1.4mm, Pitch 0.65mm, IPC High Density)
part A pins: 1 A (in) "Input A", 2 B (in) "Input B", 4 Y (out) "Output Y"
part B pins: 3 GND (power) "Ground Pin", 5 VCC (power) "Power Pin"

## SN74AHC1G32DCKT
designator U?
Single 2-Input Positive-OR Gate, DCK0005A, SMALL T&R; Generic Part Number: SN74AHC1G32; Manufacturer: Texas Instruments; PartNumber: SN74AHC1G32DCKT; VCC(Min)(V): 2; VCC(Max)(V): 5.5; Output Type: CMOS; ICC @ Nom Voltage(Max)(mA): 0.01; Bits(#): 1; F @ Nom Voltage(Max)(Mhz): 75; Rating: Catalog; Technology Family: AHC; Voltage(Nom)(V): 3.3,5; Schmitt Trigger: No; Output Drive (IOL/IOH)(Max)(mA): 50/-50; tpd @ Nom Voltage(Max)(ns): 13,8.5; Logic: True; Gate Type: OR; Sub-Family: OR Gate; DatasheetVersion: SCLS317O; PackageReference: DCK0005A; Supplier 1: Mouser; Supplier Part Number 1: 595-SN74AHC1G32DCKT; Supplier 2: Digi-Key; Supplier Part Number 2: 296-32233-2-ND; Supplier 3: Digi-Key; Supplier Part Number 3: 296-32233-1-ND; Supplier 4: Digi-Key; Supplier Part Number 4: 296-32233-6-ND; Input Type: CMOS; Operating Temperature Range(C): -40 to 125; 3-State Output: No; ComponentLink1Description: Manufacturer URL; ComponentLink1URL: http://www.ti.com/; ComponentLink2Description: Datasheet; ComponentLink2URL: http://www.ti.com/lit/ds/symlink/sn74ahc1g32.pdf
footprint DCK0005A_N (SOT23, 5-Leads, Body 2.15x1.4mm, Pitch 0.65mm, IPC Medium Density)
footprint DCK0005A_M (SOT23, 5-Leads, Body 2.15x1.4mm, Pitch 0.65mm, IPC Low Density)
footprint DCK0005A_L (SOT23, 5-Leads, Body 2.15x1.4mm, Pitch 0.65mm, IPC High Density)
part A pins: 1 A (in) "Input A", 2 B (in) "Input B", 4 Y (out) "Output Y"
part B pins: 3 GND (power) "Ground Pin", 5 VCC (power) "Power Pin"

## SN74AHC1G32DRLR
designator U?
Single 2-Input Positive-OR Gate, DRL0005A, LARGE T&R; Generic Part Number: SN74AHC1G32; Manufacturer: Texas Instruments; PartNumber: SN74AHC1G32DRLR; VCC(Min)(V): 2; VCC(Max)(V): 5.5; Output Type: CMOS; ICC @ Nom Voltage(Max)(mA): 0.01; Bits(#): 1; F @ Nom Voltage(Max)(Mhz): 75; Rating: Catalog; Technology Family: AHC; Voltage(Nom)(V): 3.3,5; Schmitt Trigger: No; Output Drive (IOL/IOH)(Max)(mA): 50/-50; tpd @ Nom Voltage(Max)(ns): 13,8.5; Logic: True; Gate Type: OR; Sub-Family: OR Gate; DatasheetVersion: SCLS317O; PackageReference: DRL0005A; Supplier 1: Mouser; Supplier Part Number 1: 595-SN74AHC1G32DRLR; Supplier 2: Digi-Key; Supplier Part Number 2: 296-19378-2-ND; Supplier 3: Digi-Key; Supplier Part Number 3: 296-19378-1-ND; Supplier 4: Digi-Key; Supplier Part Number 4: 296-19378-6-ND; Input Type: CMOS; Operating Temperature Range(C): -40 to 125; 3-State Output: No; ComponentLink1Description: Manufacturer URL; ComponentLink1URL: http://www.ti.com/; ComponentLink2Description: Datasheet; ComponentLink2URL: http://www.ti.com/lit/ds/symlink/sn74ahc1g32.pdf
footprint DRL0005A_N (SOT23, 5-Leads, Body 1.7x1.3mm, Pitch 0.5mm, IPC Medium Density)
footprint DRL0005A_M (SOT23, 5-Leads, Body 1.7x1.3mm, Pitch 0.5mm, IPC Low Density)
footprint DRL0005A_L (SOT23, 5-Leads, Body 1.7x1.3mm, Pitch 0.5mm, IPC High Density)
part A pins: 1 A (in) "Input A", 2 B (in) "Input B", 4 Y (out) "Output Y"
part B pins: 3 GND (power) "Ground Pin", 5 VCC (power) "Power Pin"

## SN74AHC1G32TDBVRQ1
designator U?
Automotive Catalog Single 2-Input Positive-OR Gate, DBV0005A, LARGE T&R; Generic Part Number: SN74AHC1G32-Q1; Manufacturer: Texas Instruments; PartNumber: SN74AHC1G32TDBVRQ1; VCC(Min)(V): 2; VCC(Max)(V): 5.5; Output Type: CMOS; ICC @ Nom Voltage(Max)(mA): 0.01; Bits(#): 1; F @ Nom Voltage(Max)(Mhz): 75; Technology Family: AHC; Voltage(Nom)(V): 3.3,5; Schmitt Trigger: No; Output Drive (IOL/IOH)(Max)(mA): 50/-50; tpd @ Nom Voltage(Max)(ns): 11.4,7.5; Logic: True; Gate Type: OR; Sub-Family: OR Gate; DatasheetVersion: SCLS544A; PackageReference: DBV0005A; Supplier 1: Mouser; Supplier Part Number 1: 595-SN74AHC1G32TDBQ1; Supplier 2: Digi-Key; Supplier Part Number 2: 296-17421-2-ND; Supplier 3: Digi-Key; Supplier Part Number 3: 296-17421-1-ND; Supplier 4: Digi-Key; Supplier Part Number 4: 296-17421-6-ND; Input Type: CMOS; Operating Temperature Range(C): -40 to 105; Rating: Automotive; 3-State Output: No; ComponentLink1Description: Manufacturer URL; ComponentLink1URL: http://www.ti.com/; ComponentLink2Description: Datasheet; ComponentLink2URL: http://www.ti.com/lit/ds/symlink/sn74ahc1g32-q1.pdf
footprint DBV0005A_N (SOT23, 5-Leads, Body 3.05x1.75mm, Pitch 0.95mm, IPC Medium Density)
footprint DBV0005A_M (SOT23, 5-Leads, Body 3.05x1.75mm, Pitch 0.95mm, IPC Low Density)
footprint DBV0005A_L (SOT23, 5-Leads, Body 3.05x1.75mm, Pitch 0.95mm, IPC High Density)
part A pins: 1 A (in) "Input A", 2 B (in) "Input B", 4 Y (out) "Output Y"
part B pins: 3 GND (power) "Ground Pin", 5 VCC (power) "Power Pin"

## SN74AHC1G32TDCKRQ1
designator U?
Automotive Catalog Single 2-Input Positive-OR Gate, DCK0005A, LARGE T&R; Generic Part Number: SN74AHC1G32-Q1; Manufacturer: Texas Instruments; PartNumber: SN74AHC1G32TDCKRQ1; VCC(Min)(V): 2; VCC(Max)(V): 5.5; Output Type: CMOS; ICC @ Nom Voltage(Max)(mA): 0.01; Bits(#): 1; F @ Nom Voltage(Max)(Mhz): 75; Technology Family: AHC; Voltage(Nom)(V): 3.3,5; Schmitt Trigger: No; Output Drive (IOL/IOH)(Max)(mA): 50/-50; tpd @ Nom Voltage(Max)(ns): 11.4,7.5; Logic: True; Gate Type: OR; Sub-Family: OR Gate; DatasheetVersion: SCLS544A; PackageReference: DCK0005A; Supplier 1: Mouser; Supplier Part Number 1: 595-SN74AHC1G32TDCQ1; Supplier 2: Digi-Key; Supplier Part Number 2: 296-25282-2-ND; Supplier 3: Digi-Key; Supplier Part Number 3: 296-25282-1-ND; Supplier 4: Digi-Key; Supplier Part Number 4: 296-25282-6-ND; Input Type: CMOS; Operating Temperature Range(C): -40 to 105; Rating: Automotive; 3-State Output: No; ComponentLink1Description: Manufacturer URL; ComponentLink1URL: http://www.ti.com/; ComponentLink2Description: Datasheet; ComponentLink2URL: http://www.ti.com/lit/ds/symlink/sn74ahc1g32-q1.pdf
footprint DCK0005A_N (SOT23, 5-Leads, Body 2.15x1.4mm, Pitch 0.65mm, IPC Medium Density)
footprint DCK0005A_M (SOT23, 5-Leads, Body 2.15x1.4mm, Pitch 0.65mm, IPC Low Density)
footprint DCK0005A_L (SOT23, 5-Leads, Body 2.15x1.4mm, Pitch 0.65mm, IPC High Density)
part A pins: 1 A (in) "Input A", 2 B (in) "Input B", 4 Y (out) "Output Y"
part B pins: 3 GND (power) "Ground Pin", 5 VCC (power) "Power Pin"

## SN74AHC1G86DBVR
designator U?
Single 2-Input Exclusive-OR Gate, DBV0005A, LARGE T&R; Generic Part Number: SN74AHC1G86; Manufacturer: Texas Instruments; PartNumber: SN74AHC1G86DBVR; VCC(Min)(V): 2; VCC(Max)(V): 5.5; Output Type: CMOS; ICC @ Nom Voltage(Max)(mA): 0.01; Bits(#): 1; F @ Nom Voltage(Max)(Mhz): 75; Rating: Catalog; Technology Family: AHC; Voltage(Nom)(V): 3.3,5; Schmitt Trigger: No; Output Drive (IOL/IOH)(Max)(mA): 50/-50; tpd @ Nom Voltage(Max)(ns): 14.5,8.8; Logic: True; Gate Type: XOR; Sub-Family: XOR Gate; DatasheetVersion: SCLS323N; PackageReference: DBV0005A; Supplier 1: Mouser; Supplier Part Number 1: 595-SN74AHC1G86DBVR; Supplier 2: Digi-Key; Supplier Part Number 2: 296-1094-2-ND; Supplier 3: Digi-Key; Supplier Part Number 3: 296-1094-1-ND; Supplier 4: Digi-Key; Supplier Part Number 4: 296-1094-6-ND; Input Type: CMOS; Operating Temperature Range(C): -40 to 125; 3-State Output: No; ComponentLink1Description: Manufacturer URL; ComponentLink1URL: http://www.ti.com/; ComponentLink2Description: Datasheet; ComponentLink2URL: http://www.ti.com/lit/ds/symlink/sn74ahc1g86.pdf
footprint DBV0005A_N (SOT23, 5-Leads, Body 3.05x1.75mm, Pitch 0.95mm, IPC Medium Density)
footprint DBV0005A_M (SOT23, 5-Leads, Body 3.05x1.75mm, Pitch 0.95mm, IPC Low Density)
footprint DBV0005A_L (SOT23, 5-Leads, Body 3.05x1.75mm, Pitch 0.95mm, IPC High Density)
part A pins: 1 A (in) "Input A", 2 B (in) "Input B", 4 Y (out) "Output Y"
part B pins: 3 GND (power) "Ground Pin", 5 VCC (power) "Power Pin"

## SN74AHC1G86DBVT
designator U?
Single 2-Input Exclusive-OR Gate, DBV0005A, SMALL T&R; Generic Part Number: SN74AHC1G86; Manufacturer: Texas Instruments; PartNumber: SN74AHC1G86DBVT; VCC(Min)(V): 2; VCC(Max)(V): 5.5; Output Type: CMOS; ICC @ Nom Voltage(Max)(mA): 0.01; Bits(#): 1; F @ Nom Voltage(Max)(Mhz): 75; Rating: Catalog; Technology Family: AHC; Voltage(Nom)(V): 3.3,5; Schmitt Trigger: No; Output Drive (IOL/IOH)(Max)(mA): 50/-50; tpd @ Nom Voltage(Max)(ns): 14.5,8.8; Logic: True; Gate Type: XOR; Sub-Family: XOR Gate; DatasheetVersion: SCLS323N; PackageReference: DBV0005A; Supplier 1: Mouser; Supplier Part Number 1: 595-SN74AHC1G86DBVT; Supplier 2: Digi-Key; Supplier Part Number 2: 296-32234-2-ND; Supplier 3: Digi-Key; Supplier Part Number 3: 296-32234-1-ND; Supplier 4: Digi-Key; Supplier Part Number 4: 296-32234-6-ND; Input Type: CMOS; Operating Temperature Range(C): -40 to 125; 3-State Output: No; ComponentLink1Description: Manufacturer URL; ComponentLink1URL: http://www.ti.com/; ComponentLink2Description: Datasheet; ComponentLink2URL: http://www.ti.com/lit/ds/symlink/sn74ahc1g86.pdf
footprint DBV0005A_N (SOT23, 5-Leads, Body 3.05x1.75mm, Pitch 0.95mm, IPC Medium Density)
footprint DBV0005A_M (SOT23, 5-Leads, Body 3.05x1.75mm, Pitch 0.95mm, IPC Low Density)
footprint DBV0005A_L (SOT23, 5-Leads, Body 3.05x1.75mm, Pitch 0.95mm, IPC High Density)
part A pins: 1 A (in) "Input A", 2 B (in) "Input B", 4 Y (out) "Output Y"
part B pins: 3 GND (power) "Ground Pin", 5 VCC (power) "Power Pin"

## SN74AHC1G86DCKR
designator U?
Single 2-Input Exclusive-OR Gate, DCK0005A, LARGE T&R; Generic Part Number: SN74AHC1G86; Manufacturer: Texas Instruments; PartNumber: SN74AHC1G86DCKR; VCC(Min)(V): 2; VCC(Max)(V): 5.5; Output Type: CMOS; ICC @ Nom Voltage(Max)(mA): 0.01; Bits(#): 1; F @ Nom Voltage(Max)(Mhz): 75; Rating: Catalog; Technology Family: AHC; Voltage(Nom)(V): 3.3,5; Schmitt Trigger: No; Output Drive (IOL/IOH)(Max)(mA): 50/-50; tpd @ Nom Voltage(Max)(ns): 14.5,8.8; Logic: True; Gate Type: XOR; Sub-Family: XOR Gate; DatasheetVersion: SCLS323N; PackageReference: DCK0005A; Supplier 1: Mouser; Supplier Part Number 1: 595-SN74AHC1G86DCKR; Supplier 2: Digi-Key; Supplier Part Number 2: 296-8750-2-ND; Supplier 3: Digi-Key; Supplier Part Number 3: 296-8750-1-ND; Supplier 4: Digi-Key; Supplier Part Number 4: 296-8750-6-ND; Input Type: CMOS; Operating Temperature Range(C): -40 to 125; 3-State Output: No; ComponentLink1Description: Manufacturer URL; ComponentLink1URL: http://www.ti.com/; ComponentLink2Description: Datasheet; ComponentLink2URL: http://www.ti.com/lit/ds/symlink/sn74ahc1g86.pdf
footprint DCK0005A_N (SOT23, 5-Leads, Body 2.15x1.4mm, Pitch 0.65mm, IPC Medium Density)
footprint DCK0005A_M (SOT23, 5-Leads, Body 2.15x1.4mm, Pitch 0.65mm, IPC Low Density)
footprint DCK0005A_L (SOT23, 5-Leads, Body 2.15x1.4mm, Pitch 0.65mm, IPC High Density)
part A pins: 1 A (in) "Input A", 2 B (in) "Input B", 4 Y (out) "Output Y"
part B pins: 3 GND (power) "Ground Pin", 5 VCC (power) "Power Pin"

## SN74AHC1G86DCKT
designator U?
Single 2-Input Exclusive-OR Gate, DCK0005A, SMALL T&R; Generic Part Number: SN74AHC1G86; Manufacturer: Texas Instruments; PartNumber: SN74AHC1G86DCKT; VCC(Min)(V): 2; VCC(Max)(V): 5.5; Output Type: CMOS; ICC @ Nom Voltage(Max)(mA): 0.01; Bits(#): 1; F @ Nom Voltage(Max)(Mhz): 75; Rating: Catalog; Technology Family: AHC; Voltage(Nom)(V): 3.3,5; Schmitt Trigger: No; Output Drive (IOL/IOH)(Max)(mA): 50/-50; tpd @ Nom Voltage(Max)(ns): 14.5,8.8; Logic: True; Gate Type: XOR; Sub-Family: XOR Gate; DatasheetVersion: SCLS323N; PackageReference: DCK0005A; Supplier 1: Mouser; Supplier Part Number 1: 595-SN74AHC1G86DCKT; Supplier 2: Digi-Key; Supplier Part Number 2: SN74AHC1G86DCKT-ND; Input Type: CMOS; Operating Temperature Range(C): -40 to 125; 3-State Output: No; ComponentLink1Description: Manufacturer URL; ComponentLink1URL: http://www.ti.com/; ComponentLink2Description: Datasheet; ComponentLink2URL: http://www.ti.com/lit/ds/symlink/sn74ahc1g86.pdf
footprint DCK0005A_N (SOT23, 5-Leads, Body 2.15x1.4mm, Pitch 0.65mm, IPC Medium Density)
footprint DCK0005A_M (SOT23, 5-Leads, Body 2.15x1.4mm, Pitch 0.65mm, IPC Low Density)
footprint DCK0005A_L (SOT23, 5-Leads, Body 2.15x1.4mm, Pitch 0.65mm, IPC High Density)
part A pins: 1 A (in) "Input A", 2 B (in) "Input B", 4 Y (out) "Output Y"
part B pins: 3 GND (power) "Ground Pin", 5 VCC (power) "Power Pin"

## SN74AHC1G86DRLR
designator U?
Single 2-Input Exclusive-OR Gate, DRL0005A, LARGE T&R; Generic Part Number: SN74AHC1G86; Manufacturer: Texas Instruments; PartNumber: SN74AHC1G86DRLR; VCC(Min)(V): 2; VCC(Max)(V): 5.5; Output Type: CMOS; ICC @ Nom Voltage(Max)(mA): 0.01; Bits(#): 1; F @ Nom Voltage(Max)(Mhz): 75; Rating: Catalog; Technology Family: AHC; Voltage(Nom)(V): 3.3,5; Schmitt Trigger: No; Output Drive (IOL/IOH)(Max)(mA): 50/-50; tpd @ Nom Voltage(Max)(ns): 14.5,8.8; Logic: True; Gate Type: XOR; Sub-Family: XOR Gate; DatasheetVersion: SCLS323N; PackageReference: DRL0005A; Supplier 1: Mouser; Supplier Part Number 1: 595-SN74AHC1G86DRLR; Supplier 2: Digi-Key; Supplier Part Number 2: 296-19738-2-ND; Supplier 3: Digi-Key; Supplier Part Number 3: 296-19738-1-ND; Supplier 4: Digi-Key; Supplier Part Number 4: 296-19738-6-ND; Input Type: CMOS; Operating Temperature Range(C): -40 to 125; 3-State Output: No; ComponentLink1Description: Manufacturer URL; ComponentLink1URL: http://www.ti.com/; ComponentLink2Description: Datasheet; ComponentLink2URL: http://www.ti.com/lit/ds/symlink/sn74ahc1g86.pdf
footprint DRL0005A_N (SOT23, 5-Leads, Body 1.7x1.3mm, Pitch 0.5mm, IPC Medium Density)
footprint DRL0005A_M (SOT23, 5-Leads, Body 1.7x1.3mm, Pitch 0.5mm, IPC Low Density)
footprint DRL0005A_L (SOT23, 5-Leads, Body 1.7x1.3mm, Pitch 0.5mm, IPC High Density)
part A pins: 1 A (in) "Input A", 2 B (in) "Input B", 4 Y (out) "Output Y"
part B pins: 3 GND (power) "Ground Pin", 5 VCC (power) "Power Pin"

## SN74AHC1G86MDCKREP
designator U?
Enhanced Product Single 2 Input Exclusive Or Gate, DCK0005A, LARGE T&R; Generic Part Number: SN74AHC1G86-EP; Manufacturer: Texas Instruments; PartNumber: SN74AHC1G86MDCKREP; VCC(Min)(V): 2; VCC(Max)(V): 5.5; Output Type: CMOS; ICC @ Nom Voltage(Max)(mA): 0.01; Bits(#): 1; F @ Nom Voltage(Max)(Mhz): 75; Rating: HiRel Enhanced Product; Technology Family: AHC; Voltage(Nom)(V): 3.3,5; Schmitt Trigger: No; Output Drive (IOL/IOH)(Max)(mA): 50/-50; tpd @ Nom Voltage(Max)(ns): 14.5,8.8; Logic: True; Gate Type: XOR; Sub-Family: XOR Gate; DatasheetVersion: SCLS709; PackageReference: DCK0005A; Supplier 1: Mouser; Supplier Part Number 1: 595-74AHC1G86MDCKREP; Supplier 2: Digi-Key; Supplier Part Number 2: 296-23233-2-ND; Supplier 3: Digi-Key; Supplier Part Number 3: 296-23233-1-ND; Supplier 4: Digi-Key; Supplier Part Number 4: 296-23233-6-ND; Input Type: CMOS; Operating Temperature Range(C): -55 to 125; 3-State Output: No; ComponentLink1Description: Manufacturer URL; ComponentLink1URL: http://www.ti.com/; ComponentLink2Description: Datasheet; ComponentLink2URL: http://www.ti.com/lit/ds/symlink/sn74ahc1g86-ep.pdf
footprint DCK0005A_N (SOT23, 5-Leads, Body 2.15x1.4mm, Pitch 0.65mm, IPC Medium Density)
footprint DCK0005A_M (SOT23, 5-Leads, Body 2.15x1.4mm, Pitch 0.65mm, IPC Low Density)
footprint DCK0005A_L (SOT23, 5-Leads, Body 2.15x1.4mm, Pitch 0.65mm, IPC High Density)
part A pins: 1 A (in) "Input A", 2 B (in) "Input B", 4 Y (out) "Output Y"
part B pins: 3 GND (power) "Ground Pin", 5 VCC (power) "Power Pin"

## SN74AHC1G86QDBVRQ1
designator U?
Automotive Catalog Single 2-Input Exclusive-OR Gate, DBV0005A, LARGE T&R; Generic Part Number: SN74AHC1G86-Q1; Manufacturer: Texas Instruments; PartNumber: SN74AHC1G86QDBVRQ1; VCC(Min)(V): 2; VCC(Max)(V): 5.5; Output Type: CMOS; ICC @ Nom Voltage(Max)(mA): 0.01; Bits(#): 1; F @ Nom Voltage(Max)(Mhz): 75; Technology Family: AHC; Voltage(Nom)(V): 3.3,5; Schmitt Trigger: No; Output Drive (IOL/IOH)(Max)(mA): 50/-50; tpd @ Nom Voltage(Max)(ns): 14.5,8.8; Logic: True; Gate Type: XOR; Sub-Family: XOR Gate; DatasheetVersion: SCLS723; PackageReference: DBV0005A; Supplier 1: Mouser; Supplier Part Number 1: 595-74AHC1G86QDBVRQ1; Supplier 2: Digi-Key; Supplier Part Number 2: 296-32235-2-ND; Supplier 3: Digi-Key; Supplier Part Number 3: 296-32235-1-ND; Supplier 4: Digi-Key; Supplier Part Number 4: 296-32235-6-ND; Input Type: CMOS; Operating Temperature Range(C): -40 to 125; Rating: Automotive; 3-State Output: No; ComponentLink1Description: Manufacturer URL; ComponentLink1URL: http://www.ti.com/; ComponentLink2Description: Datasheet; ComponentLink2URL: http://www.ti.com/lit/ds/symlink/sn74ahc1g86-q1.pdf
footprint DBV0005A_N (SOT23, 5-Leads, Body 3.05x1.75mm, Pitch 0.95mm, IPC Medium Density)
footprint DBV0005A_M (SOT23, 5-Leads, Body 3.05x1.75mm, Pitch 0.95mm, IPC Low Density)
footprint DBV0005A_L (SOT23, 5-Leads, Body 3.05x1.75mm, Pitch 0.95mm, IPC High Density)
part A pins: 1 A (in) "Input A", 2 B (in) "Input B", 4 Y (out) "Output Y"
part B pins: 3 GND (power) "Ground Pin", 5 VCC (power) "Power Pin"

## SN74AHC1G125DBVR
designator U?
Single Bus Buffer Gate with 3-State Output, DBV0005A, LARGE T&R; Generic Part Number: SN74AHC1G125; Manufacturer: Texas Instruments; PartNumber: SN74AHC1G125DBVR; VCC(Min)(V): 2; VCC(Max)(V): 5.5; Output Type: CMOS; ICC @ Nom Voltage(Max)(mA): 0.01; Bits(#): 1; F @ Nom Voltage(Max)(Mhz): 75; Rating: Catalog; Technology Family: AHC; Voltage(Nom)(V): 3.3,5; Schmitt Trigger: No; Output Drive (IOL/IOH)(Max)(mA): 50/-50; tpd @ Nom Voltage(Max)(ns): 11.5,7.5; Logic: True; Sub-Family: Non-Inverting Buffer/Driver; 3-State Output: Yes; DatasheetVersion: SCLS377K; PackageReference: DBV0005A; Supplier 1: Mouser; Supplier Part Number 1: 595-SN74AHC1G125DBVR; Supplier 2: Digi-Key; Supplier Part Number 2: 296-8744-2-ND; Supplier 3: Digi-Key; Supplier Part Number 3: 296-8744-1-ND; Supplier 4: Digi-Key; Supplier Part Number 4: 296-8744-6-ND; Input Type: CMOS; Operating Temperature Range(C): -40 to 125; ComponentLink1Description: Manufacturer URL; ComponentLink1URL: http://www.ti.com/; ComponentLink2Description: Datasheet; ComponentLink2URL: http://www.ti.com/lit/ds/symlink/sn74ahc1g125.pdf
footprint DBV0005A_N (SOT23, 5-Leads, Body 3.05x1.75mm, Pitch 0.95mm, IPC Medium Density)
footprint DBV0005A_M (SOT23, 5-Leads, Body 3.05x1.75mm, Pitch 0.95mm, IPC Low Density)
footprint DBV0005A_L (SOT23, 5-Leads, Body 3.05x1.75mm, Pitch 0.95mm, IPC High Density)
part A pins: 1 ~{OE} (in), 2 A (in), 4 Y (hiz)
part B pins: 3 GND (power), 5 VCC (power)

## SN74AHC1G125DBVT
designator U?
Single Bus Buffer Gate with 3-State Output, DBV0005A, SMALL T&R; Generic Part Number: SN74AHC1G125; Manufacturer: Texas Instruments; PartNumber: SN74AHC1G125DBVT; VCC(Min)(V): 2; VCC(Max)(V): 5.5; Output Type: CMOS; ICC @ Nom Voltage(Max)(mA): 0.01; Bits(#): 1; F @ Nom Voltage(Max)(Mhz): 75; Rating: Catalog; Technology Family: AHC; Voltage(Nom)(V): 3.3,5; Schmitt Trigger: No; Output Drive (IOL/IOH)(Max)(mA): 50/-50; tpd @ Nom Voltage(Max)(ns): 11.5,7.5; Logic: True; Sub-Family: Non-Inverting Buffer/Driver; 3-State Output: Yes; DatasheetVersion: SCLS377K; PackageReference: DBV0005A; Supplier 1: Mouser; Supplier Part Number 1: 595-SN74AHC1G125DBVT; Supplier 2: Digi-Key; Supplier Part Number 2: 296-26400-2-ND; Supplier 3: Digi-Key; Supplier Part Number 3: 296-26400-1-ND; Supplier 4: Digi-Key; Supplier Part Number 4: 296-26400-6-ND; Input Type: CMOS; Operating Temperature Range(C): -40 to 125; ComponentLink1Description: Manufacturer URL; ComponentLink1URL: http://www.ti.com/; ComponentLink2Description: Datasheet; ComponentLink2URL: http://www.ti.com/lit/ds/symlink/sn74ahc1g125.pdf
footprint DBV0005A_N (SOT23, 5-Leads, Body 3.05x1.75mm, Pitch 0.95mm, IPC Medium Density)
footprint DBV0005A_M (SOT23, 5-Leads, Body 3.05x1.75mm, Pitch 0.95mm, IPC Low Density)
footprint DBV0005A_L (SOT23, 5-Leads, Body 3.05x1.75mm, Pitch 0.95mm, IPC High Density)
part A pins: 1 ~{OE} (in), 2 A (in), 4 Y (hiz)
part B pins: 3 GND (power), 5 VCC (power)

## SN74AHC1G125DCKR
designator U?
Single Bus Buffer Gate with 3-State Output, DCK0005A, LARGE T&R; Generic Part Number: SN74AHC1G125; Manufacturer: Texas Instruments; PartNumber: SN74AHC1G125DCKR; VCC(Min)(V): 2; VCC(Max)(V): 5.5; Output Type: CMOS; ICC @ Nom Voltage(Max)(mA): 0.01; Bits(#): 1; F @ Nom Voltage(Max)(Mhz): 75; Rating: Catalog; Technology Family: AHC; Voltage(Nom)(V): 3.3,5; Schmitt Trigger: No; Output Drive (IOL/IOH)(Max)(mA): 50/-50; tpd @ Nom Voltage(Max)(ns): 11.5,7.5; Logic: True; Sub-Family: Non-Inverting Buffer/Driver; 3-State Output: Yes; DatasheetVersion: SCLS377K; PackageReference: DCK0005A; Supplier 1: Mouser; Supplier Part Number 1: 595-SN74AHC1G125DCKR; Supplier 2: Digi-Key; Supplier Part Number 2: 296-8745-2-ND; Supplier 3: Digi-Key; Supplier Part Number 3: 296-8745-1-ND; Supplier 4: Digi-Key; Supplier Part Number 4: 296-8745-6-ND; Input Type: CMOS; Operating Temperature Range(C): -40 to 125; ComponentLink1Description: Manufacturer URL; ComponentLink1URL: http://www.ti.com/; ComponentLink2Description: Datasheet; ComponentLink2URL: http://www.ti.com/lit/ds/symlink/sn74ahc1g125.pdf
footprint DCK0005A_N (SOT23, 5-Leads, Body 2.15x1.4mm, Pitch 0.65mm, IPC Medium Density)
footprint DCK0005A_M (SOT23, 5-Leads, Body 2.15x1.4mm, Pitch 0.65mm, IPC Low Density)
footprint DCK0005A_L (SOT23, 5-Leads, Body 2.15x1.4mm, Pitch 0.65mm, IPC High Density)
part A pins: 1 ~{OE} (in), 2 A (in), 4 Y (hiz)
part B pins: 3 GND (power), 5 VCC (power)

## SN74AHC1G125DCKT
designator U?
Single Bus Buffer Gate with 3-State Output, DCK0005A, SMALL T&R; Generic Part Number: SN74AHC1G125; Manufacturer: Texas Instruments; PartNumber: SN74AHC1G125DCKT; VCC(Min)(V): 2; VCC(Max)(V): 5.5; Output Type: CMOS; ICC @ Nom Voltage(Max)(mA): 0.01; Bits(#): 1; F @ Nom Voltage(Max)(Mhz): 75; Rating: Catalog; Technology Family: AHC; Voltage(Nom)(V): 3.3,5; Schmitt Trigger: No; Output Drive (IOL/IOH)(Max)(mA): 50/-50; tpd @ Nom Voltage(Max)(ns): 11.5,7.5; Logic: True; Sub-Family: Non-Inverting Buffer/Driver; 3-State Output: Yes; DatasheetVersion: SCLS377K; PackageReference: DCK0005A; Supplier 1: Mouser; Supplier Part Number 1: 595-SN74AHC1G125DCKT; Supplier 2: Digi-Key; Supplier Part Number 2: 296-32229-2-ND; Supplier 3: Digi-Key; Supplier Part Number 3: 296-32229-1-ND; Supplier 4: Digi-Key; Supplier Part Number 4: 296-32229-6-ND; Input Type: CMOS; Operating Temperature Range(C): -40 to 125; ComponentLink1Description: Manufacturer URL; ComponentLink1URL: http://www.ti.com/; ComponentLink2Description: Datasheet; ComponentLink2URL: http://www.ti.com/lit/ds/symlink/sn74ahc1g125.pdf
footprint DCK0005A_N (SOT23, 5-Leads, Body 2.15x1.4mm, Pitch 0.65mm, IPC Medium Density)
footprint DCK0005A_M (SOT23, 5-Leads, Body 2.15x1.4mm, Pitch 0.65mm, IPC Low Density)
footprint DCK0005A_L (SOT23, 5-Leads, Body 2.15x1.4mm, Pitch 0.65mm, IPC High Density)
part A pins: 1 ~{OE} (in), 2 A (in), 4 Y (hiz)
part B pins: 3 GND (power), 5 VCC (power)

## SN74AHC1G125DRLR
designator U?
Single Bus Buffer Gate with 3-State Output, DRL0005A, LARGE T&R; Generic Part Number: SN74AHC1G125; Manufacturer: Texas Instruments; PartNumber: SN74AHC1G125DRLR; VCC(Min)(V): 2; VCC(Max)(V): 5.5; Output Type: CMOS; ICC @ Nom Voltage(Max)(mA): 0.01; Bits(#): 1; F @ Nom Voltage(Max)(Mhz): 75; Rating: Catalog; Technology Family: AHC; Voltage(Nom)(V): 3.3,5; Schmitt Trigger: No; Output Drive (IOL/IOH)(Max)(mA): 50/-50; tpd @ Nom Voltage(Max)(ns): 11.5,7.5; Logic: True; Sub-Family: Non-Inverting Buffer/Driver; 3-State Output: Yes; DatasheetVersion: SCLS377K; PackageReference: DRL0005A; Supplier 1: Mouser; Supplier Part Number 1: 595-SN74AHC1G125DRLR; Supplier 2: Digi-Key; Supplier Part Number 2: 296-23231-2-ND; Supplier 3: Digi-Key; Supplier Part Number 3: 296-23231-1-ND; Supplier 4: Digi-Key; Supplier Part Number 4: 296-23231-6-ND; Input Type: CMOS; Operating Temperature Range(C): -40 to 125; ComponentLink1Description: Manufacturer URL; ComponentLink1URL: http://www.ti.com/; ComponentLink2Description: Datasheet; ComponentLink2URL: http://www.ti.com/lit/ds/symlink/sn74ahc1g125.pdf
footprint DRL0005A_N (SOT23, 5-Leads, Body 1.7x1.3mm, Pitch 0.5mm, IPC Medium Density)
footprint DRL0005A_M (SOT23, 5-Leads, Body 1.7x1.3mm, Pitch 0.5mm, IPC Low Density)
footprint DRL0005A_L (SOT23, 5-Leads, Body 1.7x1.3mm, Pitch 0.5mm, IPC High Density)
part A pins: 1 ~{OE} (in), 2 A (in), 4 Y (hiz)
part B pins: 3 GND (power), 5 VCC (power)